# EAGLE library part ?M10B-SR (library con-jst)
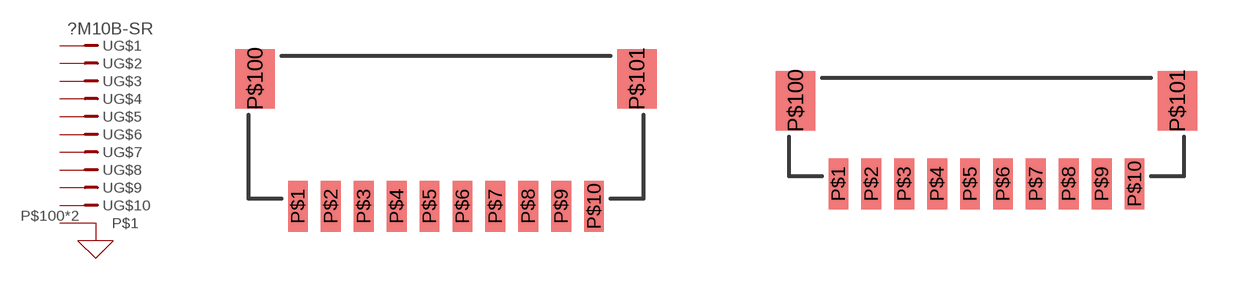
[diagram p29: symbol with the pads of SM10B-SR; footprints SM10B-SR, BM10B-SR]

Designator prefix -; gates G$1=PM-VN G$2=PM-N G$3=PM-N G$4=PM-N G$5=PM-N G$6=PM-N G$7=PM-N G$8=PM-N G$9=PM-N G$10=PM-N G$11=FRAME

## SM10B-SR  [SM10B-SR]
P$1  G$1:1  pas
P$2  G$2:1  pas
P$3  G$3:1  pas
P$4  G$4:1  pas
P$5  G$5:1  pas
P$6  G$6:1  pas
P$7  G$7:1  pas
P$8  G$8:1  pas
P$9  G$9:1  pas
P$10  G$10:1  pas
P$100  G$11:P$1
P$101  G$11:P$1

## BM10B-SR  [BM10B-SR]
Pads as for SM10B-SR

## Footprint SM10B-SR (pad centres in mm)
smd 0.6 x 1.55: P$1 -4.5,-4.775; P$2 -3.5,-4.775; P$3 -2.5,-4.775; P$4 -1.5,-4.775; P$5 -0.5,-4.775; P$6 0.5,-4.775; P$7 1.5,-4.775; P$8 2.5,-4.775; P$9 3.5,-4.775; P$10 4.5,-4.775
smd 1.2 x 1.8: P$100 -5.8,-0.9; P$101 5.8,-0.9

## Footprint BM10B-SR (pad centres in mm)
smd 0.6 x 1.55: P$1 -4.5,-3.425; P$2 -3.5,-3.425; P$3 -2.5,-3.425; P$4 -1.5,-3.425; P$5 -0.5,-3.425; P$6 0.5,-3.425; P$7 1.5,-3.425; P$8 2.5,-3.425; P$9 3.5,-3.425; P$10 4.5,-3.425
smd 1.2 x 1.8: P$100 -5.8,-0.9; P$101 5.8,-0.9